# EAGLE library part TLV3542 (library tlv3542)
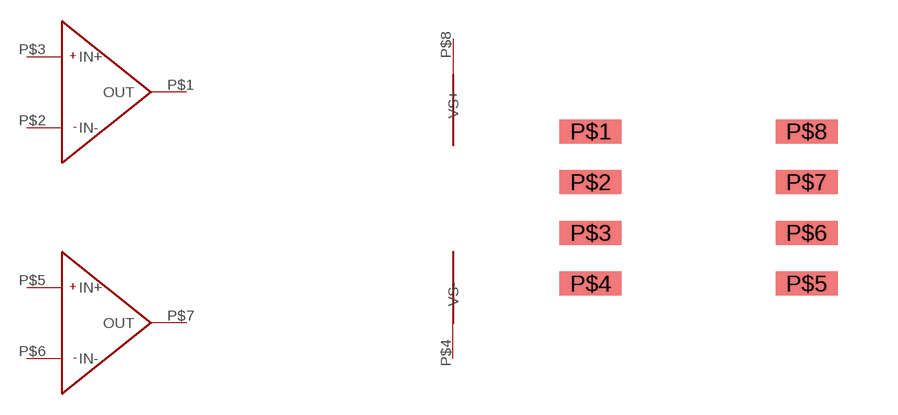
[diagram p0: symbol with the pads of TLV3542; footprint TLV3542]

Designator prefix -; gates G$1=TLV3542 G$2=TLV3542 G$3=POWER

## TLV3542  [TLV3542]
P$1  G$1:OUT
P$2  G$1:IN-
P$3  G$1:IN+
P$4  G$3:VS-
P$5  G$2:IN+
P$6  G$2:IN-
P$7  G$2:OUT
P$8  G$3:VS+

## Footprint TLV3542 (pad centres in mm)
smd 1.55 x 0.6: P$1 -2.7,1.905; P$2 -2.7,0.635; P$3 -2.7,-0.635; P$4 -2.7,-1.905; P$5 2.7,-1.905; P$6 2.7,-0.635; P$7 2.7,0.635; P$8 2.7,1.905